# Altium schematic symbol library STM32F103R.SchLib: 1 symbol
Pins are listed as number, name and electrical type; pins without a type are passive.

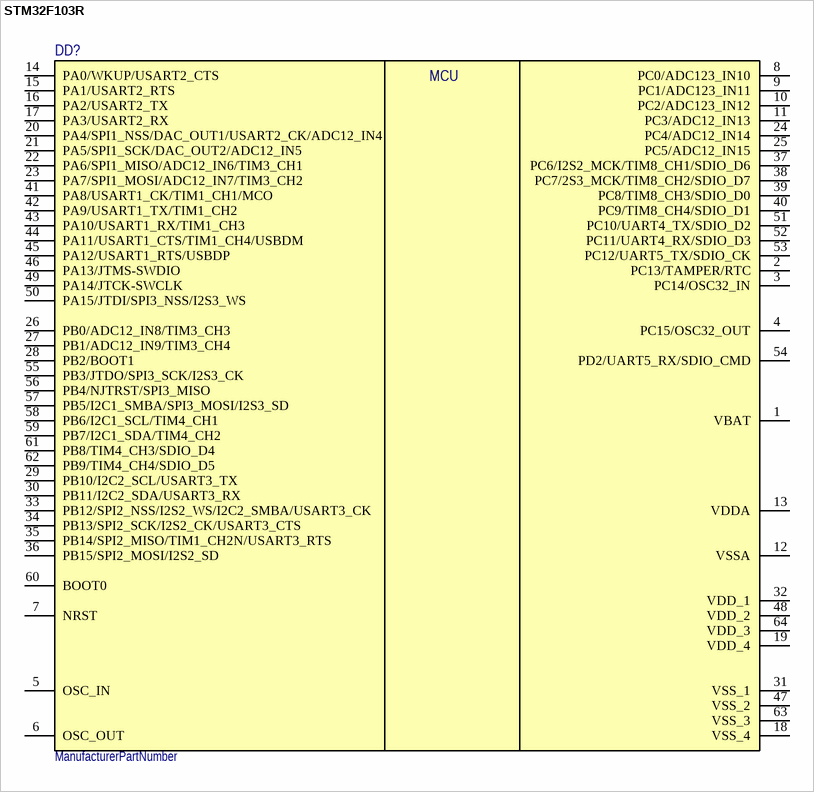
[diagram p0: symbol STM32F103R]

## STM32F103R
designator DD?  (value not drawn)
ManufacturerPartNumber: ManufacturerPartNumber
pins: 1 VBAT, 2 PC13/TAMPER/RTC, 3 PC14/OSC32_IN, 4 PC15/OSC32_OUT, 5 OSC_IN, 6 OSC_OUT, 7 NRST, 8 PC0/ADC123_IN10, 9 PC1/ADC123_IN11, 10 PC2/ADC123_IN12, 11 PC3/ADC12_IN13, 12 VSSA, 13 VDDA, 14 PA0/WKUP/USART2_CTS, 15 PA1/USART2_RTS, 16 PA2/USART2_TX, 17 PA3/USART2_RX, 18 VSS_4, 19 VDD_4, 20 PA4/SPI1_NSS/DAC_OUT1/USART2_CK/ADC12_IN4, 21 PA5/SPI1_SCK/DAC_OUT2/ADC12_IN5, 22 PA6/SPI1_MISO/ADC12_IN6/TIM3_CH1, 23 PA7/SPI1_MOSI/ADC12_IN7/TIM3_CH2, 24 PC4/ADC12_IN14, 25 PC5/ADC12_IN15, 26 PB0/ADC12_IN8/TIM3_CH3, 27 PB1/ADC12_IN9/TIM3_CH4, 28 PB2/BOOT1, 29 PB10/I2C2_SCL/USART3_TX, 30 PB11/I2C2_SDA/USART3_RX, 31 VSS_1, 32 VDD_1, 33 PB12/SPI2_NSS/I2S2_WS/I2C2_SMBA/USART3_CK, 34 PB13/SPI2_SCK/I2S2_CK/USART3_CTS, 35 PB14/SPI2_MISO/TIM1_CH2N/USART3_RTS, 36 PB15/SPI2_MOSI/I2S2_SD, 37 PC6/I2S2_MCK/TIM8_CH1/SDIO_D6, 38 PC7/2S3_MCK/TIM8_CH2/SDIO_D7, 39 PC8/TIM8_CH3/SDIO_D0, 40 PC9/TIM8_CH4/SDIO_D1, 41 PA8/USART1_CK/TIM1_CH1/MCO, 42 PA9/USART1_TX/TIM1_CH2, 43 PA10/USART1_RX/TIM1_CH3, 44 PA11/USART1_CTS/TIM1_CH4/USBDM, 45 PA12/USART1_RTS/USBDP, 46 PA13/JTMS-SWDIO, 47 VSS_2, 48 VDD_2, 49 PA14/JTCK-SWCLK, 50 PA15/JTDI/SPI3_NSS/I2S3_WS, 51 PC10/UART4_TX/SDIO_D2, 52 PC11/UART4_RX/SDIO_D3, 53 PC12/UART5_TX/SDIO_CK, 54 PD2/UART5_RX/SDIO_CMD, 55 PB3/JTDO/SPI3_SCK/I2S3_CK, 56 PB4/NJTRST/SPI3_MISO, 57 PB5/I2C1_SMBA/SPI3_MOSI/I2S3_SD, 58 PB6/I2C1_SCL/TIM4_CH1, 59 PB7/I2C1_SDA/TIM4_CH2, 60 BOOT0, 61 PB8/TIM4_CH3/SDIO_D4, 62 PB9/TIM4_CH4/SDIO_D5, 63 VSS_3, 64 VDD_3
text: MCU